# Altium footprint library NEW_PCB_2022-01-22.PcbLib: 1 footprints
Each footprint in its own frame and in the unit in brackets; x right, y up, seen from the top. Pads: shape width x height; smd on the part's side, far side on the other; paste and mask are expansions set on the pad; w line width, h text height; cw(c..) or ccw(c..) is an arc to the next point about the centre after c.
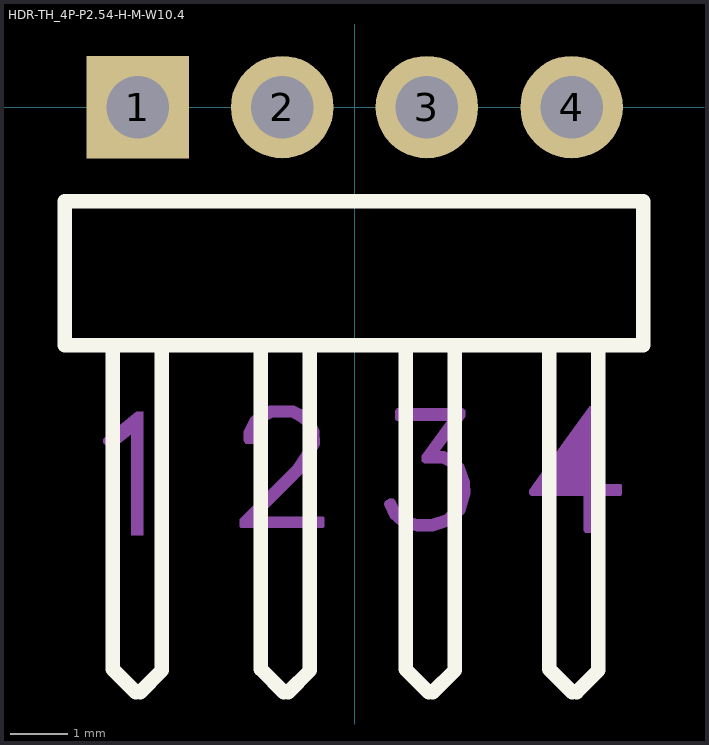
[diagram p0: the footprint, top view; thin cyan lines are the x and y axes]

## HDR-TH_4P-P2.54-H-M-W10.4 [mm]
pads (4):
  rect 1.8x1.8 hole 1.1: 1(-3.81,0)
  round 1.8 hole 1.1: 2(-1.27,0) 3(1.27,0) 4(3.81,0)
Top Overlay:
  lines w0.254: -5.09,-1.699 -5.09,-4.181 5.07,-4.181 5.07,-1.651 -5.09,-1.651 ; -3.84,-10.273 -4.244,-9.869 ; -3.764,-10.273 -3.383,-9.892 ; -1.644,-4.273 -1.644,-9.869 -1.24,-10.273 ; -1.164,-10.273 -0.783,-9.892 -0.783,-4.273 ; 1.299,-10.273 0.895,-9.869 ; 1.375,-10.273 1.756,-9.892 ; 3.417,-4.273 3.417,-9.869 3.821,-10.273 ; 3.897,-10.273 4.278,-9.892 4.278,-4.273 ; -4.244,-9.869 -4.244,-4.273 -4.244,-9.869 ; -3.383,-9.892 -3.383,-4.273 -3.383,-9.892 ; 0.895,-9.869 0.895,-4.273 0.895,-9.869 ; 1.756,-9.892 1.756,-4.273 1.756,-9.892
Mechanical 15:
  region: 4.13,-5.25 3.71,-5.83 3.07,-6.73 3.07,-6.79 3.1,-6.82 4.02,-6.82 4.02,-7.44 4.05,-7.47 4.2,-7.47 4.22,-7.45 4.23,-7.44 4.23,-6.82 4.67,-6.82 4.69,-6.8 4.69,-6.64 4.68,-6.62 4.23,-6.62 4.23,-5.32 4.23,-5.25
  region: 0.82,-5.29 1.9,-5.29 1.94,-5.32 1.94,-5.44 1.49,-6.04 1.58,-6.04 1.8,-6.16 1.92,-6.28 2.02,-6.58 2.03,-6.79 1.93,-7.12 1.71,-7.34 1.39,-7.45 1.08,-7.45 0.78,-7.35 0.63,-7.21 0.53,-7 0.52,-6.97 0.53,-6.93 0.62,-6.87 0.68,-6.88 0.71,-6.91 0.8,-7.09 0.87,-7.16 1.1,-7.24 1.34,-7.24 1.58,-7.16 1.73,-7.02 1.81,-6.78 1.81,-6.63 1.74,-6.4 1.67,-6.32 1.53,-6.25 1.22,-6.25 1.18,-6.22 1.18,-6.12 1.63,-5.51 0.74,-5.51 0.71,-5.48 0.71,-5.33 0.75,-5.29
  region: -1.77,-5.91 -1.91,-5.91 -1.95,-5.86 -1.95,-5.7 -1.83,-5.46 -1.72,-5.36 -1.5,-5.24 -1.09,-5.24 -1.06,-5.24 -0.84,-5.35 -0.73,-5.46 -0.62,-5.68 -0.61,-5.92 -0.72,-6.15 -0.9,-6.42 -1.67,-7.19 -0.58,-7.19 -0.55,-7.19 -0.53,-7.21 -0.53,-7.37 -0.55,-7.39 -2,-7.39 -2.02,-7.37 -2.02,-7.24 -2,-7.22 -1.08,-6.3 -0.92,-6.06 -0.82,-5.88 -0.82,-5.75 -0.9,-5.59 -0.96,-5.53 -1.11,-5.45 -1.43,-5.45 -1.57,-5.52 -1.65,-5.59 -1.73,-5.74 -1.73,-5.85 -1.74,-5.89
  region: -4.38,-5.8 -3.83,-5.35 -3.71,-5.35 -3.71,-7.52 -3.92,-7.52 -3.92,-5.74 -4.22,-5.98 -4.26,-6.01 -4.3,-6 -4.41,-5.89 -4.41,-5.83